# EAGLE library part TPD3S014TDBVRQ1 (library SamacSys_Parts)
Current-Limit Switch and D+/D- ESD Protection for Automotive USB Host Ports Source: Datasheet <http://www.ti.com/lit/gpn/tpd3s014-q1>
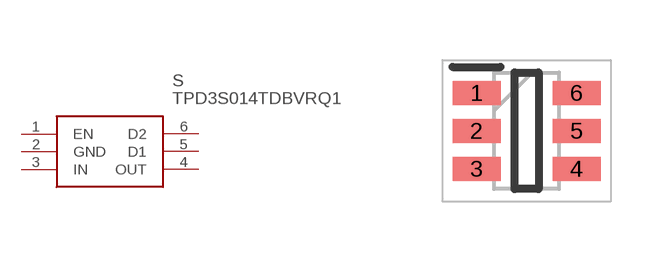
[diagram p15: symbol with the pads of SOT95P280X145-6N; footprint SOT95P280X145-6N]

Designator prefix S

## TPD3S014TDBVRQ1 (DESCRIPTION: Current-Limit Switch and D+/D- ESD Protection for Automotive USB Host Ports; HEIGHT: 1.45mm; MANUFACTURER_NAME: Texas Instruments; MANUFACTURER_PART_NUMBER: TPD3S014TDBVRQ1; MOUSER_PART_NUMBER: 595-TPD3S014TDBVRQ1; MOUSER_PRICE-STOCK: https://www.mouser.co.uk/ProductDetail/Texas-Instruments/TPD3S014TDBVRQ1?qs=f4l5qYp%2Fy%252B4t4RRhQp5Ndw%3D%3D)  [SOT95P280X145-6N]
1  EN
2  GND
3  IN
4  OUT
5  D1
6  D2

## Footprint SOT95P280X145-6N (pad centres in mm)
SOT23-6L_1
smd 1.2 x 0.6: 1 -1.25,0.95; 2 -1.25,0; 3 -1.25,-0.95; 4 1.25,-0.95; 5 1.25,0; 6 1.25,0.95